# Altium footprint library SparkFun-Aesthetics.PCBLIB: 74 footprints (part 3 of 5)
Each footprint in its own frame and in the unit in brackets; x right, y up, seen from the top. Pads: shape width x height; smd on the part's side, far side on the other; paste and mask are expansions set on the pad; w line width, h text height; cw(c..) or ccw(c..) is an arc to the next point about the centre after c.
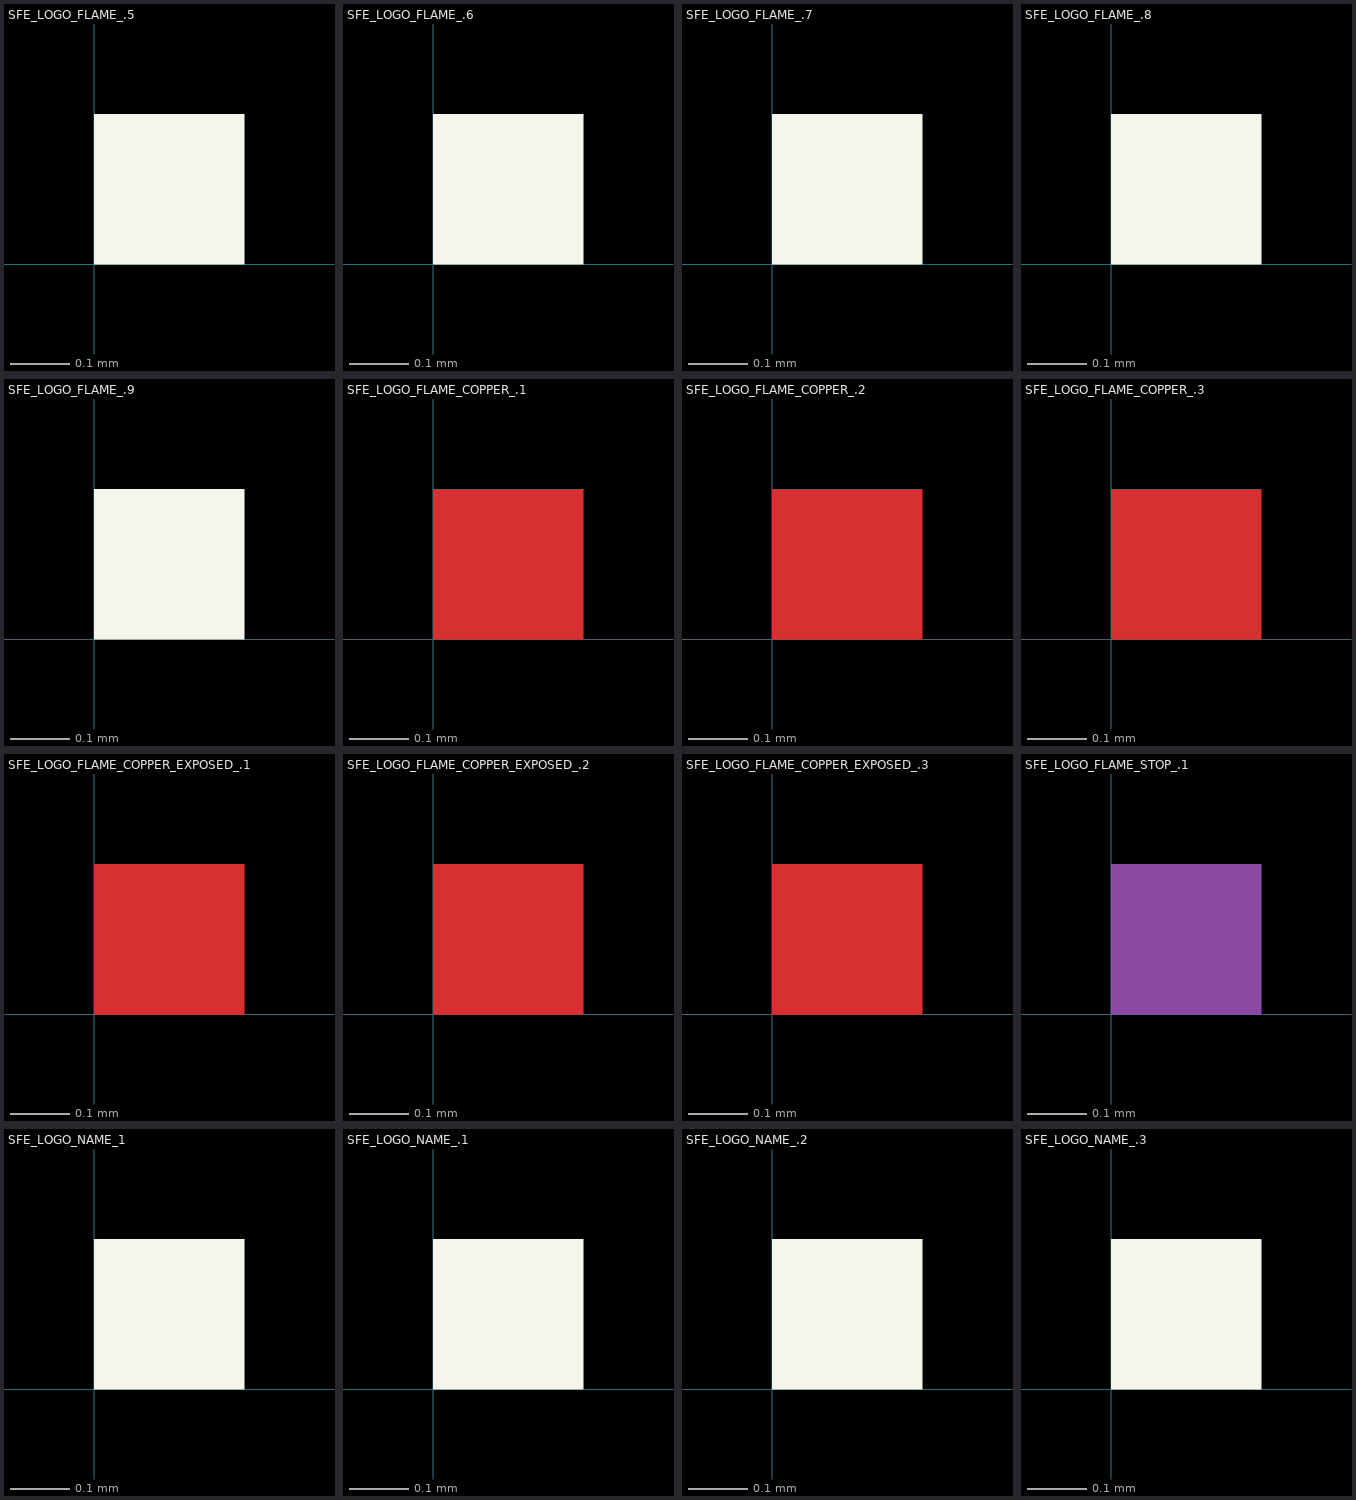
[diagram p2: the footprints below, top view; thin cyan lines are the x and y axes]

## SFE_LOGO_FLAME_.5 [mm]
Top Overlay:
  region: 0,0 0.254,0 0.254,0.254 0,0.254

## SFE_LOGO_FLAME_.6 [mm]
Top Overlay:
  region: 0,0 0.254,0 0.254,0.254 0,0.254

## SFE_LOGO_FLAME_.7 [mm]
Top Overlay:
  region: 0,0 0.254,0 0.254,0.254 0,0.254

## SFE_LOGO_FLAME_.8 [mm]
Top Overlay:
  region: 0,0 0.254,0 0.254,0.254 0,0.254

## SFE_LOGO_FLAME_.9 [mm]
Top Overlay:
  region: 0,0 0.254,0 0.254,0.254 0,0.254

## SFE_LOGO_FLAME_COPPER_.1 [mm]
Top Layer:
  region: 0,0 0.254,0 0.254,0.254 0,0.254

## SFE_LOGO_FLAME_COPPER_.2 [mm]
Top Layer:
  region: 0,0 0.254,0 0.254,0.254 0,0.254

## SFE_LOGO_FLAME_COPPER_.3 [mm]
Top Layer:
  region: 0,0 0.254,0 0.254,0.254 0,0.254

## SFE_LOGO_FLAME_COPPER_EXPOSED_.1 [mm]
Top Layer:
  region: 0,0 0.254,0 0.254,0.254 0,0.254
Top Solder:
  region: 0,0 0.254,0 0.254,0.254 0,0.254

## SFE_LOGO_FLAME_COPPER_EXPOSED_.2 [mm]
Top Layer:
  region: 0,0 0.254,0 0.254,0.254 0,0.254
Top Solder:
  region: 0,0 0.254,0 0.254,0.254 0,0.254

## SFE_LOGO_FLAME_COPPER_EXPOSED_.3 [mm]
Top Layer:
  region: 0,0 0.254,0 0.254,0.254 0,0.254
Top Solder:
  region: 0,0 0.254,0 0.254,0.254 0,0.254

## SFE_LOGO_FLAME_STOP_.1 [mm]
Top Solder:
  region: 0,0 0.254,0 0.254,0.254 0,0.254
Mechanical 16:
  region: 0,0 0.254,0 0.254,0.254 0,0.254

## SFE_LOGO_NAME_1 [mm]
Top Overlay:
  region: 0,0 0.254,0 0.254,0.254 0,0.254
  region: 0,0 0.254,0 0.254,0.254 0,0.254
  region: 0,0 0.254,0 0.254,0.254 0,0.254
  region: 0,0 0.254,0 0.254,0.254 0,0.254
  region: 0,0 0.254,0 0.254,0.254 0,0.254
  region: 0,0 0.254,0 0.254,0.254 0,0.254
  region: 0,0 0.254,0 0.254,0.254 0,0.254
  region: 0,0 0.254,0 0.254,0.254 0,0.254
  region: 0,0 0.254,0 0.254,0.254 0,0.254
  region: 0,0 0.254,0 0.254,0.254 0,0.254

## SFE_LOGO_NAME_.1 [mm]
Top Overlay:
  region: 0,0 0.254,0 0.254,0.254 0,0.254
  region: 0,0 0.254,0 0.254,0.254 0,0.254
  region: 0,0 0.254,0 0.254,0.254 0,0.254
  region: 0,0 0.254,0 0.254,0.254 0,0.254
  region: 0,0 0.254,0 0.254,0.254 0,0.254
  region: 0,0 0.254,0 0.254,0.254 0,0.254
  region: 0,0 0.254,0 0.254,0.254 0,0.254
  region: 0,0 0.254,0 0.254,0.254 0,0.254
  region: 0,0 0.254,0 0.254,0.254 0,0.254
  region: 0,0 0.254,0 0.254,0.254 0,0.254

## SFE_LOGO_NAME_.2 [mm]
Top Overlay:
  region: 0,0 0.254,0 0.254,0.254 0,0.254
  region: 0,0 0.254,0 0.254,0.254 0,0.254
  region: 0,0 0.254,0 0.254,0.254 0,0.254
  region: 0,0 0.254,0 0.254,0.254 0,0.254
  region: 0,0 0.254,0 0.254,0.254 0,0.254
  region: 0,0 0.254,0 0.254,0.254 0,0.254
  region: 0,0 0.254,0 0.254,0.254 0,0.254
  region: 0,0 0.254,0 0.254,0.254 0,0.254
  region: 0,0 0.254,0 0.254,0.254 0,0.254
  region: 0,0 0.254,0 0.254,0.254 0,0.254

## SFE_LOGO_NAME_.3 [mm]
Top Overlay:
  region: 0,0 0.254,0 0.254,0.254 0,0.254
  region: 0,0 0.254,0 0.254,0.254 0,0.254
  region: 0,0 0.254,0 0.254,0.254 0,0.254
  region: 0,0 0.254,0 0.254,0.254 0,0.254
  region: 0,0 0.254,0 0.254,0.254 0,0.254
  region: 0,0 0.254,0 0.254,0.254 0,0.254
  region: 0,0 0.254,0 0.254,0.254 0,0.254
  region: 0,0 0.254,0 0.254,0.254 0,0.254
  region: 0,0 0.254,0 0.254,0.254 0,0.254
  region: 0,0 0.254,0 0.254,0.254 0,0.254